# Altium footprint library AFS14A04157542T3.PcbLib: 1 footprints
Each footprint in its own frame and in the unit in brackets; x right, y up, seen from the top. Pads: shape width x height; smd on the part's side, far side on the other; paste and mask are expansions set on the pad; w line width, h text height; cw(c..) or ccw(c..) is an arc to the next point about the centre after c.
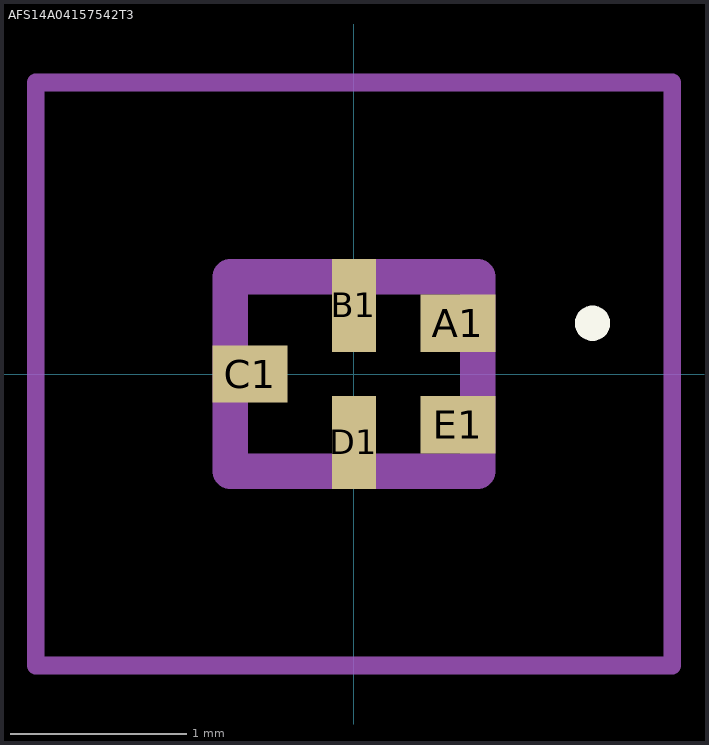
[diagram p0: the footprint, top view; thin cyan lines are the x and y axes]

## AFS14A04157542T3 [mm]
pads (5):
  rect 0.425x0.325 smd: A1(0.588,0.288) C1(-0.588,0) E1(0.588,-0.287)
  rect 0.25x0.525 smd: B1(0,0.388) D1(0,-0.387)
Top Overlay:
  lines w0.1: 1.3,0.288 cw(c1.35,0.288) 1.4,0.288 cw(c1.35,0.288) 1.3,0.288 ; 1.3,0.288 1.3,0.288 ; 1.4,0.288 1.4,0.288
Mechanical 15:
  lines w0.2: -0.7,-0.55 0.7,-0.55 0.7,0.55 -0.7,0.55 -0.7,-0.55
Mechanical 20:
  lines w0.1: -1.8,-1.65 1.801,-1.65 ; -1.8,-1.65 -1.8,1.65 ; -1.8,-1.65 1.801,-1.65 ; -1.8,-1.65 -1.8,1.65 ; -1.8,1.65 1.801,1.65 ; -1.8,1.65 1.801,1.65 ; 1.801,-1.65 1.801,1.65 ; 1.801,-1.65 1.801,1.65